# EAGLE library part MICROSD-SHIELD (library wsc)
MicroSD é um padrão de cartões portáteis de memória flash removíveis. Tem-se aqui o shield SparkFun MicroSD Transflash Breakout.
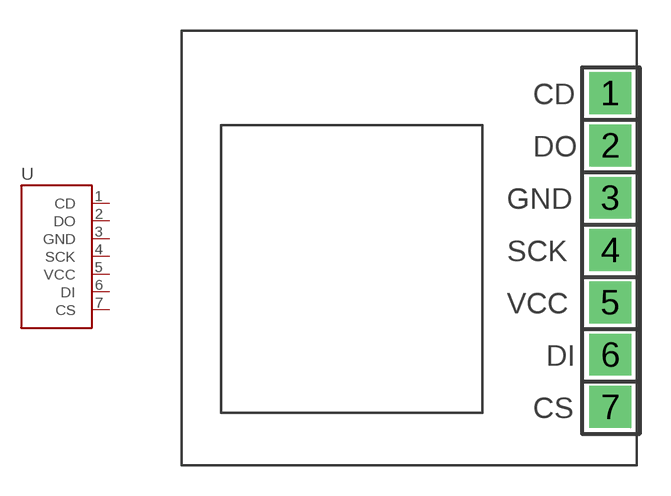
[diagram p80: symbol with the pads of MICROSD-SHIELD; footprint MICROSD-SHIELD]

Designator prefix U

## MICROSD-SHIELDMICROSD  [MICROSD-SHIELD]
1  CD
2  DO
3  GND  pwr
4  SCK
5  VCC  pwr
6  DI
7  CS

## Footprint MICROSD-SHIELD (pad centres in mm)
Description: This footprint is still untested! Represents the Sparkfun MicroSD Transflash Breakout.
drill 0.914 pad 2.032 square: 1 12.548,8.661; 2 12.548,6.121; 3 12.548,3.581; 4 12.548,1.041; 5 12.548,-1.499; 6 12.548,-4.039; 7 12.548,-6.579